# EAGLE library part 146134-22 (library con-tyco-mod-II)
HEADER
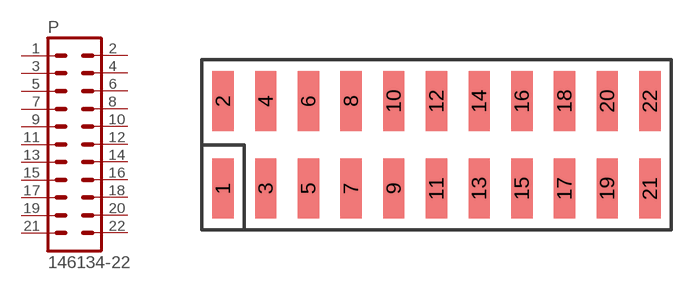
[diagram p8: symbol with the pads of 146134-22; footprint 146134-22]

Designator prefix P

## 146134-22  [146134-22]
1  1  pas
2  2  pas
3  3  pas
4  4  pas
5  5  pas
6  6  pas
7  7  pas
8  8  pas
9  9  pas
10  10  pas
11  11  pas
12  12  pas
13  13  pas
14  14  pas
15  15  pas
16  16  pas
17  17  pas
18  18  pas
19  19  pas
20  20  pas
21  21  pas
22  22  pas

## Footprint 146134-22 (pad centres in mm)
HEADER
smd 1.27 x 3.556: 1 -12.7,-2.603; 2 -12.7,2.603; 3 -10.16,-2.603; 4 -10.16,2.603; 5 -7.62,-2.603; 6 -7.62,2.603; 7 -5.08,-2.603; 8 -5.08,2.603; 9 -2.54,-2.603; 10 -2.54,2.603; 11 0,-2.603; 12 0,2.603; 13 2.54,-2.603; 14 2.54,2.603; 15 5.08,-2.603; 16 5.08,2.603; 17 7.62,-2.603; 18 7.62,2.603; 19 10.16,-2.603; 20 10.16,2.603; 21 12.7,-2.603; 22 12.7,2.603